# Altium schematic symbol library I2S_C.SchLib: 1 symbol
Pins are listed as number, name and electrical type; pins without a type are passive.

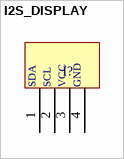
[diagram p0: symbol I2S_DISPLAY]

## I2S_DISPLAY
designator I?  (value not drawn)
footprint HPC_1x4
pins: 1 SDA, 2 SCL, 3 VCC, 4 GND